# EAGLE library part DWM1001 (library DWM1001)
DW1000-based module with Cortex M4 MCU, 512kB Flash, 64kB RAM, crypto, BLE, 3-D
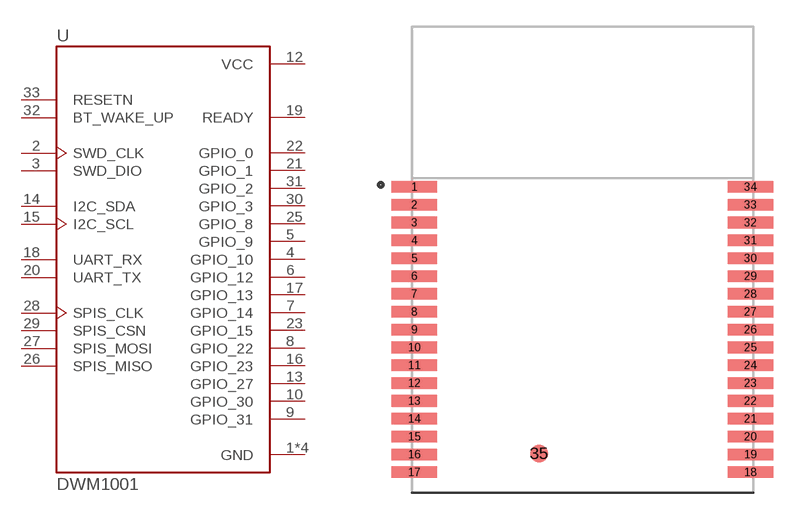
[diagram p0: symbol with the pads of MOD_DWM1001; footprint MOD_DWM1001]

Designator prefix U

## DWM1001 (Availability: Unavailable; Description: DW1000-based module with Cortex M4 MCU, 512kB Flash, 64kB RAM, crypto, BLE, 3-D; MF: Decawave Limited; MP: DWM1001; Package: SMD-20 Decawave; Price: None)  [MOD_DWM1001]
1  GND  pwr
2  SWD_CLK  in
3  SWD_DIO
4  GPIO_10
5  GPIO_9
6  GPIO_12
7  GPIO_14
8  GPIO_22
9  GPIO_31
10  GPIO_30
11  GND  pwr
12  VCC  pwr
13  GPIO_27
14  I2C_SDA
15  I2C_SCL  in
16  GPIO_23
17  GPIO_13
18  UART_RX  in
19  READY  out
20  UART_TX  out
21  GPIO_1
22  GPIO_0
23  GPIO_15
24  GND  pwr
25  GPIO_8
26  SPIS_MISO  out
27  SPIS_MOSI  in
28  SPIS_CLK  in
29  SPIS_CSN  in
30  GPIO_3
31  GPIO_2
32  BT_WAKE_UP  in
33  RESETN  in
34  GND  pwr

## Footprint MOD_DWM1001 (pad centres in mm)
smd 2.54 x 0.65: 1 -9.42,4.085; 2 -9.42,3.085; 3 -9.42,2.085; 4 -9.42,1.085; 5 -9.42,0.085; 6 -9.42,-0.915; 7 -9.42,-1.915; 8 -9.42,-2.915; 9 -9.42,-3.915; 10 -9.42,-4.915; 11 -9.42,-5.915; 12 -9.42,-6.915; 13 -9.42,-7.915; 14 -9.42,-8.915; 15 -9.42,-9.915; 16 -9.42,-10.915; 17 -9.42,-11.915; 18 9.42,-11.915; 19 9.42,-10.915; 20 9.42,-9.915; 21 9.42,-8.915; 22 9.42,-7.915; 23 9.42,-6.915; 24 9.42,-5.915; 25 9.42,-4.915; 26 9.42,-3.915; 27 9.42,-2.915; 28 9.42,-1.915; 29 9.42,-0.915; 30 9.42,0.085; 31 9.42,1.085; 32 9.42,2.085; 33 9.42,3.085; 34 9.42,4.085
smd 1 x 1: 35 -2.435,-10.865